# EAGLE library part MSP430G2553_RHB_32 (library bone)
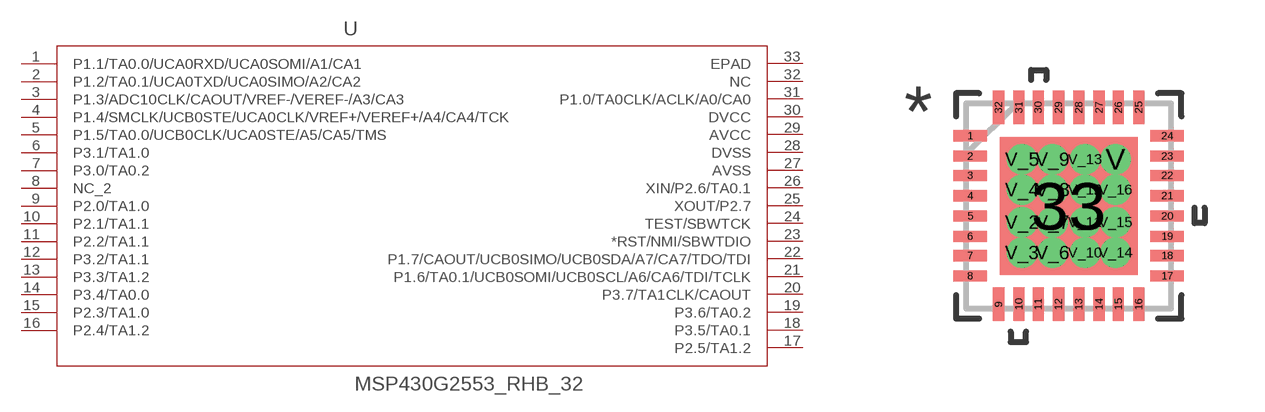
[diagram p1: symbol with the pads of RHB32_3P45X3P45; footprint RHB32_3P45X3P45]

Designator prefix U

## MSP430G2553_RHB_32 (DATASHEETURL: http://www.ti.com/lit/gpn/MSP430G2553; DESCRIPTION: MSP430G2x53, MSP430G2x13 Mixed Signal Microcontroller; FAMILY_NAME: Value Line; GENERIC_PART_NUMBER: MSP430G2553; INDUSTRY_STD_PKG_TYPE: QFN; MANUFACTURER: Texas Instruments; MANUFACTURER_PART_NUMBER: msp430g2553_rhb_32; PACKAGE_DESIGNATOR: RHB; PIN_COUNT: 32; VENDOR: Texas Instruments)  [RHB32_3P45X3P45]
1  P1.1/TA0.0/UCA0RXD/UCA0SOMI/A1/CA1
2  P1.2/TA0.1/UCA0TXD/UCA0SIMO/A2/CA2
3  P1.3/ADC10CLK/CAOUT/VREF-/VEREF-/A3/CA3
4  P1.4/SMCLK/UCB0STE/UCA0CLK/VREF+/VEREF+/A4/CA4/TCK
5  P1.5/TA0.0/UCB0CLK/UCA0STE/A5/CA5/TMS
6  P3.1/TA1.0
7  P3.0/TA0.2
8  NC_2  pas
9  P2.0/TA1.0
10  P2.1/TA1.1
11  P2.2/TA1.1
12  P3.2/TA1.1
13  P3.3/TA1.2
14  P3.4/TA0.0
15  P2.3/TA1.0
16  P2.4/TA1.2
17  P2.5/TA1.2
18  P3.5/TA0.1
19  P3.6/TA0.2
20  P3.7/TA1CLK/CAOUT
21  P1.6/TA0.1/UCB0SOMI/UCB0SCL/A6/CA6/TDI/TCLK
22  P1.7/CAOUT/UCB0SIMO/UCB0SDA/A7/CA7/TDO/TDI
23  *RST/NMI/SBWTDIO
24  TEST/SBWTCK
25  XOUT/P2.7
26  XIN/P2.6/TA0.1
27  AVSS  pwr
28  DVSS  pwr
29  AVCC  pwr
30  DVCC  pwr
31  P1.0/TA0CLK/ACLK/A0/CA0
32  NC  pas
33  EPAD  pas

## Footprint RHB32_3P45X3P45 (pad centres in mm)
smd 0.838 x 0.279: 1 -2.464,1.753; 2 -2.464,1.245; 3 -2.464,0.762; 4 -2.464,0.254; 5 -2.464,-0.254; 6 -2.464,-0.762; 7 -2.464,-1.245; 8 -2.464,-1.753; 17 2.464,-1.753; 18 2.464,-1.245; 19 2.464,-0.762; 20 2.464,-0.254; 21 2.464,0.254; 22 2.464,0.762; 23 2.464,1.245; 24 2.464,1.753
smd 0.279 x 0.838: 9 -1.753,-2.464; 10 -1.245,-2.464; 11 -0.762,-2.464; 12 -0.254,-2.464; 13 0.254,-2.464; 14 0.762,-2.464; 15 1.245,-2.464; 16 1.753,-2.464; 25 1.753,2.464; 26 1.245,2.464; 27 0.762,2.464; 28 0.254,2.464; 29 -0.254,2.464; 30 -0.762,2.464; 31 -1.245,2.464; 32 -1.753,2.464
smd 3.454 x 3.454: 33 0,0
drill 0.254: V 1.168,1.168; V_2 -1.168,-0.406; V_3 -1.168,-1.168; V_4 -1.168,0.406; V_5 -1.168,1.168; V_6 -0.406,-1.168; V_7 -0.406,-0.406; V_8 -0.406,0.406; V_9 -0.406,1.168; V_10 0.406,-1.168; V_11 0.406,-0.406; V_12 0.406,0.406; V_13 0.406,1.168; V_14 1.168,-1.168; V_15 1.168,-0.406; V_16 1.168,0.406